# EAGLE library part 009175003 (library con-avx)
Wire to Board IDC Connector 3 WAY Source: http://www.avx.com/docs/Catalogs/9175.pdf
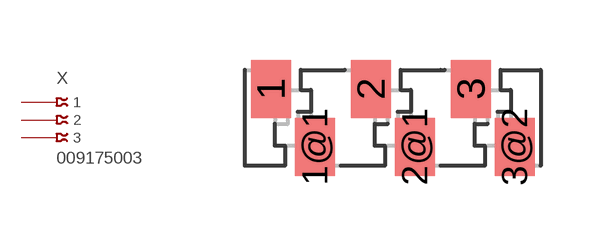
[diagram p0: symbol with the pads of 009175003; footprint 009175003]

Designator prefix X

## 009175003  [009175003]
1  1  pas
1@1  1  pas
2  2  pas
2@1  2  pas
3  3  pas
3@2  3  pas

## Footprint 009175003 (pad centres in mm)
Wire to Board IDC Connector 3 WAY Source: http://www.avx.com/docs/Catalogs/9175.pdf
smd 1 x 1.45: 1 -3.05,0.725; 1@1 -1.95,-0.725; 2 -0.55,0.725; 2@1 0.55,-0.725; 3 1.95,0.725; 3@2 3.05,-0.725